# Altium footprint library SensorConnector.PcbLib: 3 footprints
Each footprint in its own frame and in the unit in brackets; x right, y up, seen from the top. Pads: shape width x height; smd on the part's side, far side on the other; paste and mask are expansions set on the pad; w line width, h text height; cw(c..) or ccw(c..) is an arc to the next point about the centre after c.
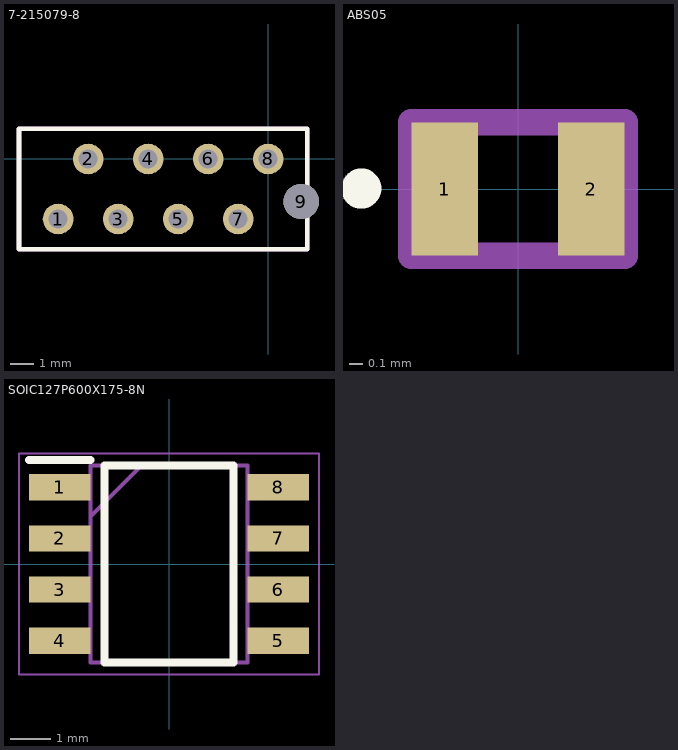
[diagram p0: the footprints below, top view; thin cyan lines are the x and y axes]

## 7-215079-8 [mm]
pads (9):
  round 1.3 hole 0.8: 1(-8.89,-2.54) 2(-7.62,0) 3(-6.35,-2.54) 4(-5.08,0) 5(-3.81,-2.54) 6(-2.54,0) 7(-1.27,-2.54) 8(0,0)
  round 1.5 hole 1.5 unplated: 9(1.4,-1.8)
Top Overlay:
  lines w0.2: -10.545,-3.82 -10.545,1.28 1.655,1.28 1.655,-3.82 -10.545,-3.82
Mechanical 13:
  lines w0.2: -10.545,-3.82 -10.545,1.28 1.655,1.28 1.655,-3.82 -10.545,-3.82
3D body "7-215079-8.stp": height 0, standoff -7.15, extent -7.305,-2.5 7.305,2.5

## ABS05 [mm]
pads (2):
  rect 0.5x1 smd: 1(-0.55,0) 2(0.55,0)
Top Overlay:
  circle w0.254: c-1.177,0.003 r0.024
Mechanical 13:
  lines w0.2: -0.8,-0.5 0.8,-0.5 0.8,0.5 -0.8,0.5 -0.8,-0.5

## SOIC127P600X175-8N [mm]
pads (8):
  rect 1.525x0.65 smd: 1(-2.712,1.905) 2(-2.712,0.635) 3(-2.712,-0.635) 4(-2.712,-1.905) 5(2.712,-1.905) 6(2.712,-0.635) 7(2.712,0.635) 8(2.712,1.905)
Top Overlay:
  lines w0.2: -3.475,2.58 -1.95,2.58 ; -1.6,-2.45 1.6,-2.45 1.6,2.45 -1.6,2.45 -1.6,-2.45
Mechanical 13:
  lines w0.1: -1.95,1.18 -0.68,2.45 ; -1.95,-2.45 1.95,-2.45 1.95,2.45 -1.95,2.45 -1.95,-2.45
Mechanical 15:
  lines w0.05: -3.725,-2.75 3.725,-2.75 3.725,2.75 -3.725,2.75 -3.725,-2.75
3D body "NE555DR.stp": height 1.75, standoff 0, extent -3,-2.45 3,2.45